# Altium schematic symbol library modulo_programador_schlib.SchLib: 10 symbols
Pins are listed as number, name and electrical type; pins without a type are passive.

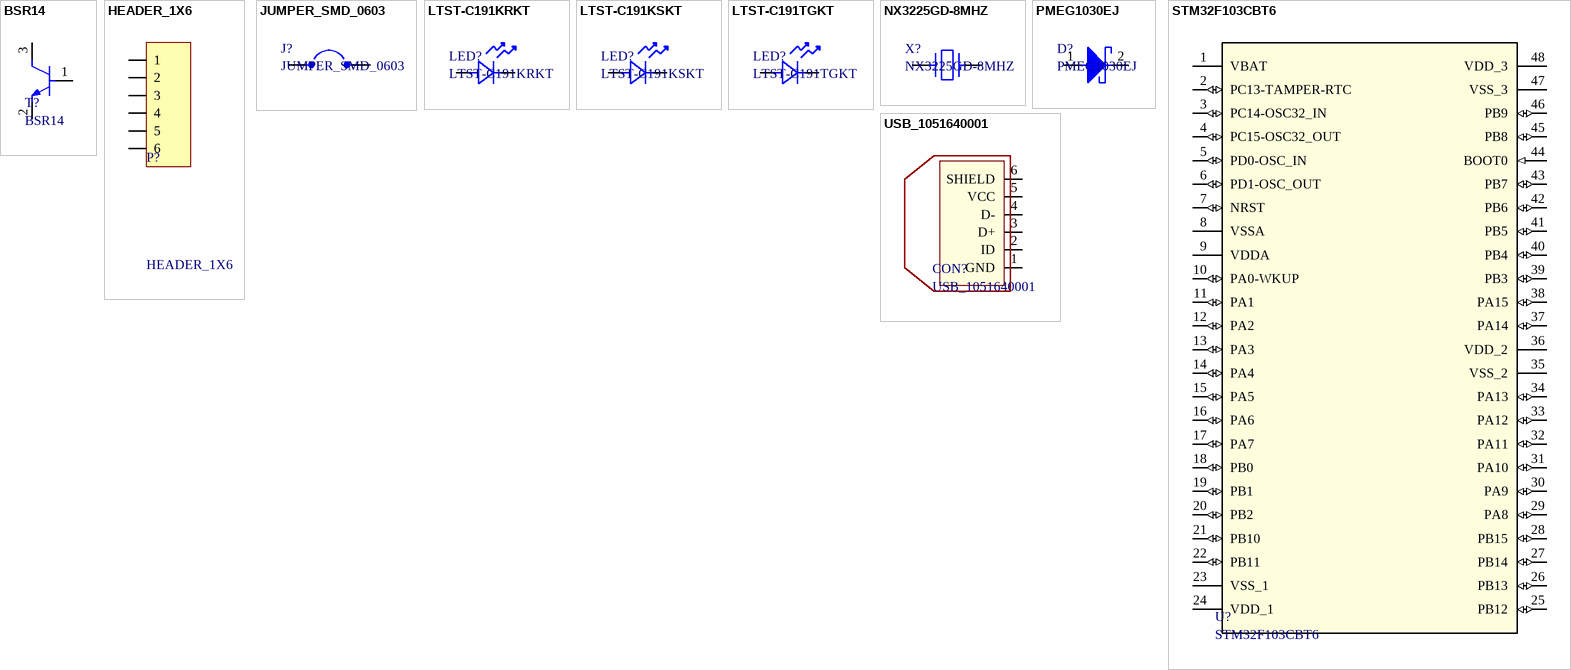
[diagram p0: symbols BSR14 to USB_1051640001]

## BSR14
designator T?
Transistor NPN 40V 0.8A SOT23; Manufacturer: Philips; Current Rating: 800mA; Power Dissipation: 350mW; Case/Package: SOT-23; Category: BJTs; Collector Emitter Breakdown Voltage: 40V; Lead Free: Lead Free; Manufacturer Part Number: BSR14; Number of Pins: 3; Packaging: Cut Tape; Polarity: NPN; REACH SVHC: No SVHC; Voltage Rating (DC): 40V
footprint BSR14
pins: 1 B, 2 E, 3 C

## HEADER_1X6
designator P?
Header, 6-Pin; LatestRevisionDate: 17-Jul-2002; LatestRevisionNote: Re-released for DXP Platform.; Publisher: Altium Limited
signal-integrity model Connector
footprint HEADER_1X6 (Connector; Header; 6 Position)
pins: 1, 2, 3, 4, 5, 6

## JUMPER_SMD_0603
designator J?
footprint JUMPER_SMD_0603
pins: 1, 2

## LTST-C191KRKT
designator LED?
DIODO LED ROJO; Manufacturer: Vishay Lite-On; Color: Red; Dominant Wavelength: 631nm; Forward Current: 30mA; Forward Voltage: 2V; Lens Color: Colorless; Lens Style: Clear,Diffused,Colorless,Rectangular; Lens Transparency: Clear; Luminous Intensity: 54mcd; Number of Elements: 1; Power Dissipation: 75mW; Reverse Voltage: 5V; Test Current: 20mA; Viewing Angle: 130°; Wavelength: 639nm; Case Code (Imperial): 0603; Case Code (Metric): 1608; Case/Package: 0603; Category: LEDs; Depth: 0.8mm; Height: 0.55mm; Illumination Color: Red; Lead Free: Lead Free; Length: 1.6mm; Manufacturer Part Number: LTST-C191KRKT; Max Operating Temperature: 85°C; Min Operating Temperature: -55°C; Mount: Surface Mount; Number of LEDs: 1; Number of Pins: 2; Package Quantity: 1; Packaging: Tape and Reel; Power Rating: 75mW; Radiation Hardening: No; Voltage: 2V; Width: 0.8mm
footprint LTST-C191KRKT
pins: 1 A, 2 K

## LTST-C191KSKT
designator LED?
DIODO LED AMARILLO; Manufacturer: Vishay Lite-On; Color: Yellow; Dominant Wavelength: 597nm; Forward Current: 30mA; Forward Voltage: 2.4V; Lens Color: Colorless; Lens Style: Diffused,Colorless,Rectangular,Clear; Lens Transparency: Clear; Luminous Intensity: 180mcd; Number of Elements: 1; Power Dissipation: 75mW; Reverse Voltage: 5V; Test Current: 20mA; Viewing Angle: 130°; Wavelength: 588nm; Case Code (Imperial): 0603; Case Code (Metric): 1608; Case/Package: 0603; Category: LEDs; Depth: 0.8mm; Height: 0.55mm; Illumination Color: Yellow; Lead Free: Lead Free; Length: 1.6mm; Manufacturer Part Number: LTST-C191KSKT; Max Operating Temperature: 85°C; Min Operating Temperature: -55°C; Mount: Surface Mount; Number of LEDs: 1; Number of Pins: 2; Package Quantity: 1; Packaging: Tape and Reel; Power Rating: 75mW; Radiation Hardening: No; Width: 0.8mm
footprint LTST-C191KSKT
pins: 1 A, 2 K

## LTST-C191TGKT
designator LED?
DIODO LED VERDE; Manufacturer: Vishay Lite-On; Color: Green; Dominant Wavelength: 530nm; Forward Current: 25mA; Forward Voltage: 3.2V; Lens Color: Colorless; Lens Style: Clear,Diffused,Colorless,Rectangular; Lens Transparency: Clear; Luminous Intensity: 450mcd; Number of Elements: 1; Power Dissipation: 76mW; Reverse Voltage: 5V; Test Current: 20mA; Viewing Angle: 130°; Case Code (Imperial): 0603; Case Code (Metric): 1608; Case/Package: 0603; Category: LEDs; Depth: 0.8mm; Height: 0.55mm; Illumination Color: Green; Lead Free: Lead Free; Length: 1.6mm; Manufacturer Part Number: LTST-C191TGKT; Max Operating Temperature: 80°C; Min Operating Temperature: -20°C; Mount: Surface Mount; Number of LEDs: 1; Number of Pins: 2; Package Quantity: 1; Packaging: Tape and Reel; Radiation Hardening: No; Wavelength: 530nm; Width: 0.8mm
footprint LTST-C191TGKT
pins: 1 A, 2 K

## NX3225GD-8MHZ
designator X?
CRISTAL 8MHZ SMD; Manufacturer: NDK; Manufacturer Part Number: NX3225GD-8MHZ-STD-CRA-3; ESR (Equivalent Series Resistance): 500R; Frequency Stability: 150ppm; Frequency Tolerance: 50ppm; Load Capacitance: 8pF; Case/Package: SMD/SMT; Category: Crystals; Frequency: 8MHz; Height: 0.039inch; Length: 0.126inch; Max Operating Temperature: 150°C; Min Operating Temperature: -40°C; Mount: Surface Mount; Number of Pins: 2; Package Quantity: 3000; Packaging: Tape and Reel; Width: 0.098inch
footprint NX3225GD-8MHZ
pins: 1, 2

## PMEG1030EJ
designator D?
DIODO SCHOTTKY; Manufacturer: Nexperia; Manufacturer Part Number: PMEG1030EJ,115
footprint PMEG1030EJ
pins: 1 A, 2 K

## STM32F103CBT6
designator U?
Manufacturer: STMicroelectronics; Address Bus Width: 32b; Core Architecture: ARM; Density: 128KB; Frequency: 72MHz; Interface: I2C,SPI,USB,CAN,IrDA,UART,USART,LIN; Max Power Dissipation: 363mW; Max Supply Voltage: 3.6V; Memory Type: FLASH; Min Supply Voltage: 2V; Number of ADC Channels: 10; Number of Bits: 32; Number of I/Os: 37; Number of I2C Channels: 2; Number of PWM Channels: 12; Number of Timers/Counters: 4; Oscillator Type: Internal; Peripherals: POR,PWM,WDT,DMA,Temp Sensor,I2C; RAM Size: 20KB; Watchdog Timer: Yes; Case/Package: LQFP; Category: Microcontrollers; Contact Plating: Gold; Data Bus Width: 32b; Height: 1.45mm; Lead Free: Lead Free; Length: 7mm; Manufacturer Part Number: STM32F103CBT6; Max Frequency: 72MHz; Max Operating Temperature: 85°C; Memory Size: 128KB; Min Operating Temperature: -40°C; Number of Pins: 48; Number of Programmable I/O: 37; Number of SPI Channels: 2; Package Quantity: 250; Packaging: Tray; Radiation Hardening: No; REACH SVHC: No SVHC; Termination: SMD/SMT; Width: 7.2mm
footprint STM32F103CBT6
pins: 1 VBAT (power), 2 PC13-TAMPER-RTC (io), 3 PC14-OSC32_IN (io), 4 PC15-OSC32_OUT (io), 5 PD0-OSC_IN (io), 6 PD1-OSC_OUT (io), 7 NRST (io), 8 VSSA (power), 9 VDDA (power), 10 PA0-WKUP (io), 11 PA1 (io), 12 PA2 (io), 13 PA3 (io), 14 PA4 (io), 15 PA5 (io), 16 PA6 (io), 17 PA7 (io), 18 PB0 (io), 19 PB1 (io), 20 PB2 (io), 21 PB10 (io), 22 PB11 (io), 23 VSS_1 (power), 24 VDD_1 (power), 25 PB12 (io), 26 PB13 (io), 27 PB14 (io), 28 PB15 (io), 29 PA8 (io), 30 PA9 (io), 31 PA10 (io), 32 PA11 (io), 33 PA12 (io), 34 PA13 (io), 35 VSS_2 (power), 36 VDD_2 (power), 37 PA14 (io), 38 PA15 (io), 39 PB3 (io), 40 PB4 (io), 41 PB5 (io), 42 PB6 (io), 43 PB7 (io), 44 BOOT0 (in), 45 PB8 (io), 46 PB9 (io), 47 VSS_3 (power), 48 VDD_3 (power)

## USB_1051640001
designator CON?
USB MICRO; Manufacturer: Molex; Manufacturer Part Number: 105164-0001; Current Rating: 1.8A; Gender: Receptacle; Mating Cycles: 10000; Max Voltage Rating (AC): 30V; Number of Circuits: 5; Number of Ports: 1; Pitch: 0.65mm; Plating: Tin; Shielding: Shielded; USB Standard: USB 2.0; Supplier 1: Digi-Key; Category: USB Connectors; Color: Black; Connector Type: USB; Contact Material: Copper Alloy; Contact Plating: Gold; Depth: 5.15mm; Flammability Rating: UL94 V-0; Halogen Free: Low Halogen; Housing Material: Polymer; Insulation Color: Black; Length: 7.5mm; Max Operating Temperature: 85°C; Min Operating Temperature: -35°C; Mount: Surface Mount,Through Hole,Horizontal; Number of Contacts: 5; Number of Terminals: 5; Orientation: Right Angle; Package Quantity: 6500; Packaging: Tape and Reel; Radiation Hardening: No; REACH SVHC: No SVHC; Termination: Solder; Voltage Rating (AC): 30V
footprint USB_1051640001
pins: 1 GND, 2 ID, 3 D+, 4 D-, 5 VCC, 6 SHIELD